# Altium footprint library LED_603.PcbLib: 1 footprints
Each footprint in its own frame and in the unit in brackets; x right, y up, seen from the top. Pads: shape width x height; smd on the part's side, far side on the other; paste and mask are expansions set on the pad; w line width, h text height; cw(c..) or ccw(c..) is an arc to the next point about the centre after c.
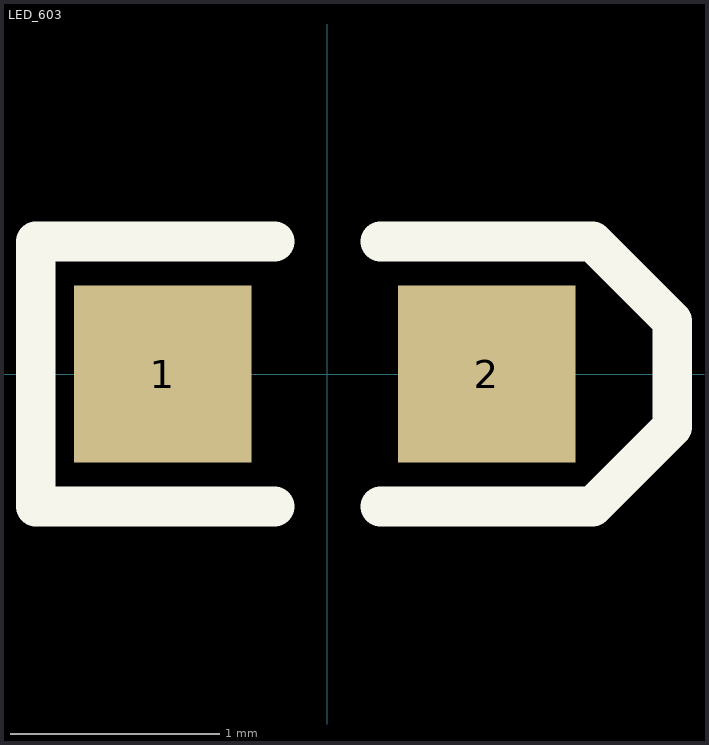
[diagram p0: the footprint, top view; thin cyan lines are the x and y axes]

## LED_603 [mm]
pads (2):
  rect 0.85x0.85 smd: 1(-0.788,0) 2(0.762,0)
Top Overlay:
  lines w0.191: -0.254,-0.635 -1.397,-0.635 -1.397,0.635 -0.254,0.635 ; 0.254,-0.635 1.27,-0.635 1.651,-0.254 1.651,0.254 1.27,0.635 0.254,0.635
3D body "STEP-WL-SMCW-0603-rev1.stp": height 0.7, standoff 0, extent -0.8,-0.4 0.8,0.4